# Altium footprint library FMTrans.PcbLib: 24 footprints (part 2 of 2)
Each footprint in its own frame and in the unit in brackets; x right, y up, seen from the top. Pads: shape width x height; smd on the part's side, far side on the other; paste and mask are expansions set on the pad; w line width, h text height; cw(c..) or ccw(c..) is an arc to the next point about the centre after c.
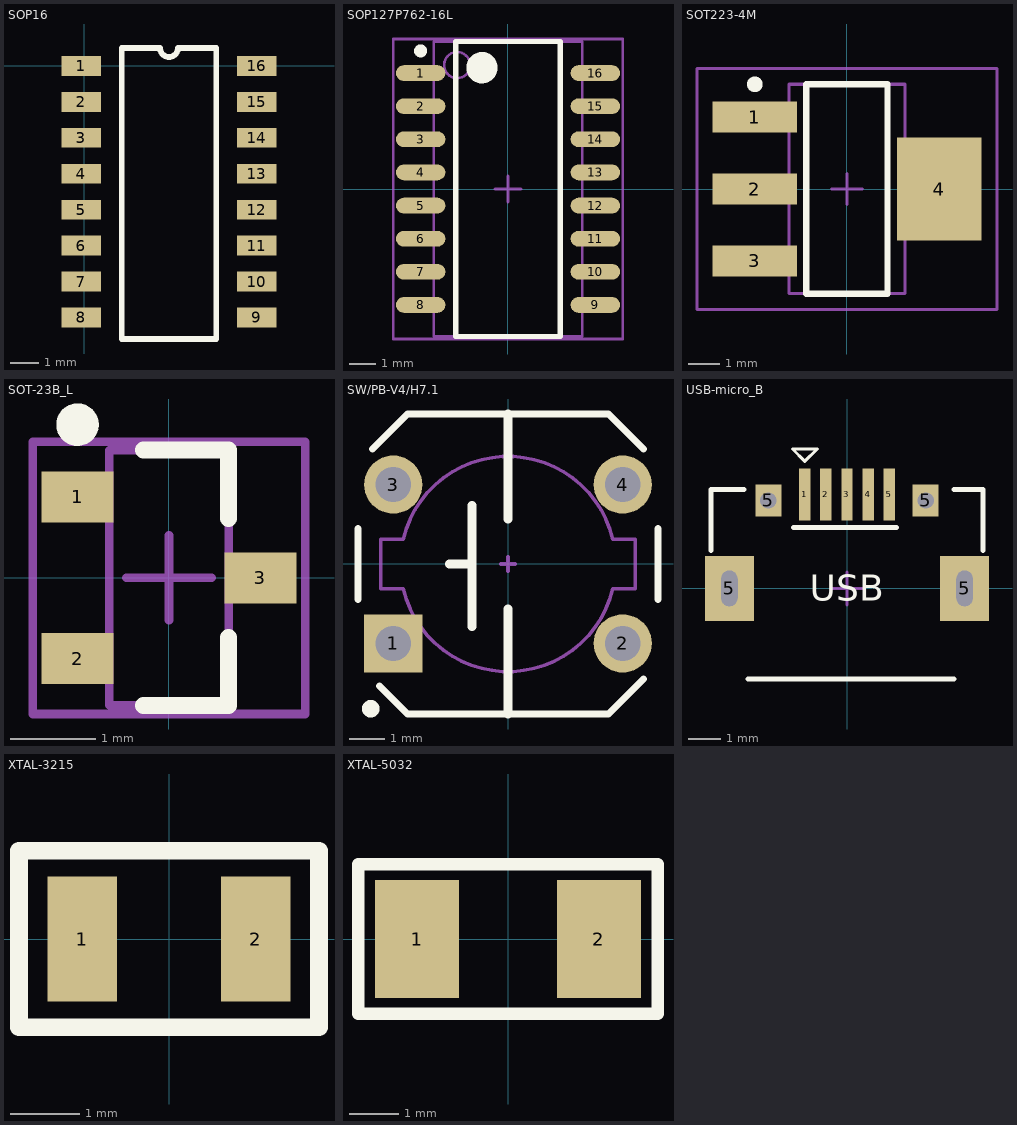
[diagram p1: the footprints below, top view; thin cyan lines are the x and y axes]

## SOP16 [mm]
pads (16):
  rect 1.4x0.7 smd: 1(-0.1,0) 2(-0.1,-1.27) 3(-0.1,-2.54) 4(-0.1,-3.81) 5(-0.1,-5.08) 6(-0.1,-6.35) 7(-0.1,-7.62) 8(-0.1,-8.89) 9(6.1,-8.89) 10(6.1,-7.62) 11(6.1,-6.35) 12(6.1,-5.08) 13(6.1,-3.81) 14(6.1,-2.54) 15(6.1,-1.27) 16(6.1,0)
Top Overlay:
  lines w0.2: 1.335,-9.652 1.335,0.635 2.682,0.635 ccw(c3,0.635) 3.317,0.635 4.665,0.635 4.665,-9.652 1.335,-9.652

## SOP127P762-16L [mm] "16-Pin Small Outline Package 1.27 mm Pitch"
height 2.2
pads (16):
  oval 1.9x0.6 smd: 1(-3.35,4.445) 2(-3.35,3.175) 3(-3.35,1.905) 4(-3.35,0.635) 5(-3.35,-0.635) 6(-3.35,-1.905) 7(-3.35,-3.175) 8(-3.35,-4.445) 9(3.35,-4.445) 10(3.35,-3.175) 11(3.35,-1.905) 12(3.35,-0.635) 13(3.35,0.635) 14(3.35,1.905) 15(3.35,3.175) 16(3.35,4.445)
Top Overlay:
  circle w0.25: c-3.35,5.295 r0.125
  circle w0.6: c-1,4.65 r0.3
  lines w0.2: -2,-5.65 -2,5.65 2,5.65 2,-5.65 -2,-5.65
Mechanical 13:
  circle w0.1: c-1.95,4.75 r0.5
  lines w0.1: -2.85,-5.65 -2.85,5.65 2.85,5.65 2.85,-5.65 -2.85,-5.65
Mechanical 15:
  lines w0.1: -0.5,0 0.5,0 ; 0,-0.5 0,0.5 ; -4.4,-5.75 -4.4,5.75 4.4,5.75 4.4,-5.75 -4.4,-5.75
3D body: height 2.2, standoff 0, extent -2.85,-5.65 2.85,5.65

## SOT223-4M [mm] "SOT223, 4-Leads, Body 6.5x3.5mm, Pitch 2.3mm, Lead Span 7mm, IPC Low Density"
height 1.8
pads (4):
  rect 2.7x1 smd: 1(-2.95,2.3) 2(-2.95,0) 3(-2.95,-2.3)
  rect 2.7x3.3 smd: 4(2.95,0)
Top Overlay:
  circle w0.25: c-2.95,3.35 r0.125
  lines w0.2: -1.3,-3.35 1.3,-3.35 1.3,3.35 -1.3,3.35 -1.3,-3.35
Mechanical 13:
  lines w0.1: -1.85,-3.35 1.85,-3.35 1.85,3.35 -1.85,3.35 -1.85,-3.35
Mechanical 15:
  lines w0.1: -0.5,0 0.5,0 ; 0,-0.5 0,0.5 ; -4.8,-3.85 4.8,-3.85 4.8,3.85 -4.8,3.85 -4.8,-3.85
3D body: height 1.8, standoff 0, extent -1.85,-3.35 1.85,3.35

## SOT-23B_L [mm] "SOT23, 3-Leads, Body 2.9x1.3mm, Pitch 0.95mm, Lead Span 2.4mm, IPC High Density"
height 1.14
pads (3):
  rect 0.85x0.6 smd: 1(-1.075,0.95) 2(-1.075,-0.95) 3(1.075,0)
Top Overlay:
  circle w0.25: c-1.075,1.8 r0.125
  lines w0.2: -0.3,-1.5 0.7,-1.5 0.7,-0.7 ; -0.3,1.5 0.7,1.5 0.7,0.7
Mechanical 13:
  lines w0.1: -0.7,-1.5 -0.7,1.5 0.7,1.5 0.7,-1.5 -0.7,-1.5
Mechanical 15:
  lines w0.1: -0.5,0 0.5,0 ; 0,-0.5 0,0.5 ; -1.6,-1.6 -1.6,1.6 1.6,1.6 1.6,-1.6 -1.6,-1.6
3D body: height 1.14, standoff 0, extent -0.7,-1.5 0.7,1.5

## SW/PB-V4/H7.1 [mm] "Switch, Push Button, Thru-Hole; 4 Leads; Body 8.5 x 8.5 mm (LxW typ); Row Spacing 9.0 mm; Pitch 4.5 mm"
height 7.1
pads (4):
  rect 1.65x1.65 hole 1: 1(-3.25,-2.25)
  round 1.65 hole 1: 2(3.25,-2.25) 3(-3.25,2.25) 4(3.25,2.25)
Top Overlay:
  circle w0.25: c-3.891,-4.1 r0.125
  lines w0.2: -4.25,-1 -4.25,1 ; -3.837,3.263 -2.85,4.25 2.85,4.25 3.837,3.263 ; -3.638,-3.458 -2.85,-4.25 2.85,-4.25 3.837,-3.263 ; 4.25,-1 4.25,1
  lines w0.254: -1.651,0 -1.016,0 ; -1.016,-1.778 -1.016,1.651 ; 0,-4.25 0,-2.413 0,-1.27 ; 0,1.27 0,2.921 0,4.25
Mechanical 1:
  lines w0.1: -2.97,0.7 -3.6,0.7 -3.6,-0.7 -2.97,-0.7 ccw(c-0.001,0) 2.967,-0.7 ; -2.969,0.7 cw(c0,0) 2.969,0.7 ; -0.2,0 0.2,0 ; 0,-0.2 0,0.2 ; 2.97,-0.7 3.6,-0.7 3.6,0.7 2.97,0.7

## USB-micro_B [mm] "micro型USB ，5.7*7.8*2.5mm"
pads (9):
  rect 0.35x1.6 smd: 1(-1.3,2.9) 2(-0.65,2.9) 3(0,2.9) 4(0.65,2.9) 5(1.3,2.9)
  rect 1.5x2 hole 0.5 slot 1.1 at 90 deg: 5(-3.625,0) 5(3.625,0)
  rect 0.8x1 hole 0.5: 5(-2.425,2.71) 5(2.425,2.71)
Top Overlay:
  lines w0.1: -1.681,4.297 -0.919,4.297 -1.3,3.916 -1.681,4.297
  lines w0.152: -4.191,1.168 -4.191,3.048 -3.175,3.048 ; -3.048,-2.794 3.302,-2.794 ; -1.65,1.875 1.525,1.875 ; 3.302,3.048 4.191,3.048 4.191,1.168
  text "USB" at -1.143,-0.381 h0.81
Mechanical 15:
  lines w0.1: -0.508,0 0.508,0 ; 0,-0.508 0,0.508
3D body "USB micro_A.STEP": height 2.8, standoff -0.95, extent -4.001,-2.71 4.001,2.89

## XTAL-3215 [mm]
pads (2):
  rect 1x1.8 smd: 1(-1.25,0) 2(1.25,0)
Top Overlay:
  lines w0.254: -2.159,-1.27 2.159,-1.27 2.159,1.27 -2.159,1.27 -2.159,-1.27

## XTAL-5032 [mm]
pads (2):
  rect 1.7x2.4 smd: 1(-1.85,0) 2(1.85,0)
Top Overlay:
  lines w0.254: -3.048,-1.524 3.048,-1.524 3.048,1.524 -3.048,1.524 -3.048,-1.524